# Altium schematic symbol library PMIC-Supervisors.SchLib: 1 symbol
Pins are listed as number, name and electrical type; pins without a type are passive.

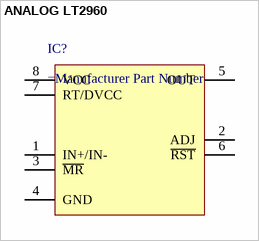
[diagram p0: symbol ANALOG LT2960]

## ANALOG LT2960
designator IC?
The LTC®2960 is a nano-current, high voltage two-input / voltage monitor, ideally suited for multicell battery applications.
footprint ANALOG TSOT-23-8
pins: 1 IN+/IN-, 2 ADJ, 3 ~{MR}, 4 GND, 5 OUT, 6 ~{RST}, 7 RT/DVCC, 8 VCC